# Altium schematic symbol library TESTPOINT.Schlib: 1 symbol
Pins are listed as number, name and electrical type; pins without a type are passive.

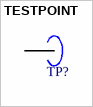
[diagram p0: symbol TESTPOINT]

## TESTPOINT
designator TP?, comment TP  (value not drawn)
SMT Test Point
pins: 1 TP
1 alternate drawing of the same symbol